# EAGLE library part M34513(32PIN) (library renesas_mcu)
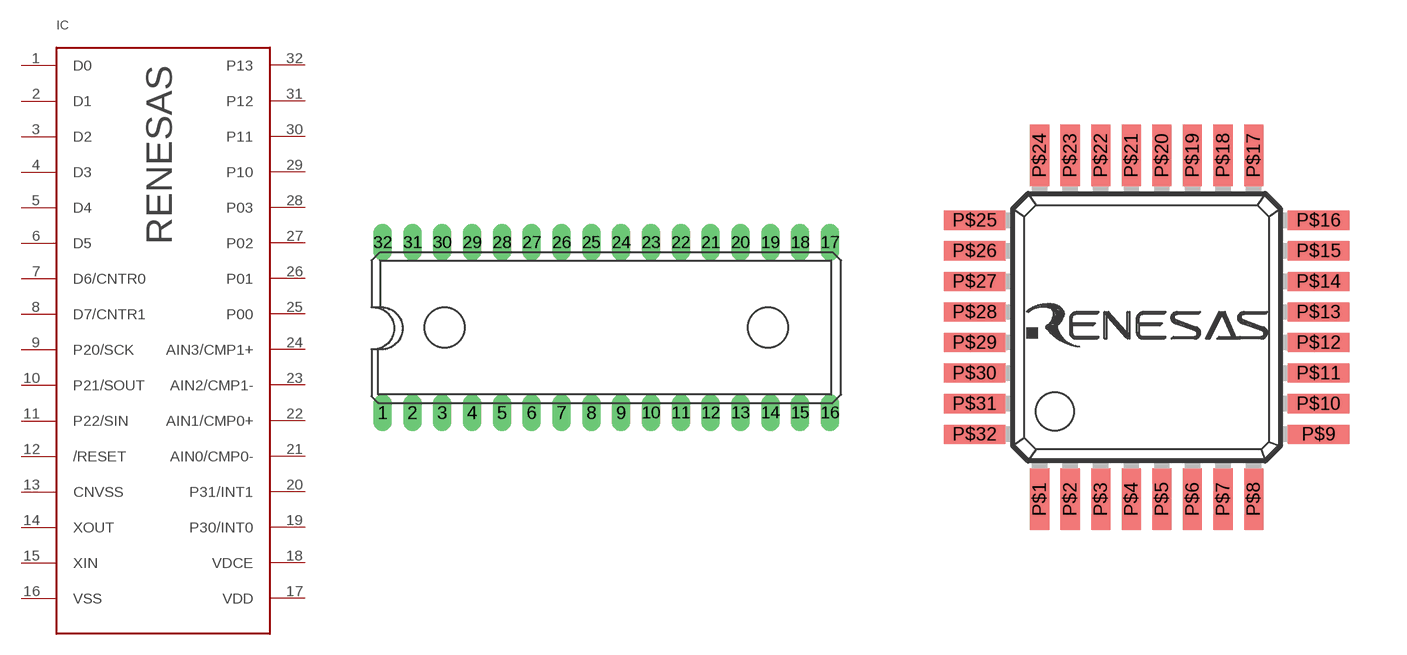
[diagram p47: symbol with the pads of 32P4B; footprints 32P4B, 32P6B-A]

Designator prefix IC

## M34513(32PIN)SP  [32P4B]
1  D0
2  D1
3  D2
4  D3
5  D4
6  D5
7  D6/CNTR0
8  D7/CNTR1
9  P20/SCK
10  P21/SOUT
11  P22/SIN
12  /RESET
13  CNVSS
14  XOUT  out
15  XIN  in
16  VSS  pwr
17  VDD  pwr
18  VDCE
19  P30/INT0
20  P31/INT1
21  AIN0/CMP0-
22  AIN1/CMP0+
23  AIN2/CMP1-
24  AIN3/CMP1+
25  P00
26  P01
27  P02
28  P03
29  P10
30  P11
31  P12
32  P13

## M34513(32PIN)FP  [32P6B-A]
P$1  D3
P$2  D4
P$3  D5
P$4  D6/CNTR0
P$5  D7/CNTR1
P$6  P20/SCK
P$7  P21/SOUT
P$8  P22/SIN
P$9  /RESET
P$10  CNVSS
P$11  XOUT  out
P$12  XIN  in
P$13  VSS  pwr
P$14  VDD  pwr
P$15  VDCE
P$16  P30/INT0
P$17  P31/INT1
P$18  AIN0/CMP0-
P$19  AIN1/CMP0+
P$20  AIN2/CMP1-
P$21  AIN3/CMP1+
P$22  P00
P$23  P01
P$24  P02
P$25  P03
P$26  P10
P$27  P11
P$28  P12
P$29  P13
P$30  D0
P$31  D1
P$32  D2

## Footprint 32P4B (pad centres in mm)
drill 0.61 long: 1 -13.335,-5.08; 2 -11.557,-5.08; 3 -9.779,-5.08; 4 -8.001,-5.08; 5 -6.223,-5.08; 6 -4.445,-5.08; 7 -2.667,-5.08; 8 -0.889,-5.08; 9 0.889,-5.08; 10 2.667,-5.08; 11 4.445,-5.08; 12 6.223,-5.08; 13 8.001,-5.08; 14 9.779,-5.08; 15 11.557,-5.08; 16 13.335,-5.08; 17 13.335,5.08; 18 11.557,5.08; 19 9.779,5.08; 20 8.001,5.08; 21 6.223,5.08; 22 4.445,5.08; 23 2.667,5.08; 24 0.889,5.08; 25 -0.889,5.08; 26 -2.667,5.08; 27 -4.445,5.08; 28 -6.223,5.08; 29 -8.001,5.08; 30 -9.779,5.08; 31 -11.557,5.08; 32 -13.335,5.08

## Footprint 32P6B-A (pad centres in mm)
smd 0.5 x 1.6: P$1 -2.8,-4.5; P$2 -2,-4.5; P$3 -1.2,-4.5; P$4 -0.4,-4.5; P$5 0.4,-4.5; P$6 1.2,-4.5; P$7 2,-4.5; P$8 2.8,-4.5; P$17 2.8,4.5; P$18 2,4.5; P$19 1.2,4.5; P$20 0.4,4.5; P$21 -0.4,4.5; P$22 -1.2,4.5; P$23 -2,4.5; P$24 -2.8,4.5
smd 1.6 x 0.5: P$9 4.5,-2.8; P$10 4.5,-2; P$11 4.5,-1.2; P$12 4.5,-0.4; P$13 4.5,0.4; P$14 4.5,1.2; P$15 4.5,2; P$16 4.5,2.8; P$25 -4.5,2.8; P$26 -4.5,2; P$27 -4.5,1.2; P$28 -4.5,0.4; P$29 -4.5,-0.4; P$30 -4.5,-1.2; P$31 -4.5,-2; P$32 -4.5,-2.8